# Altium footprint library 1N4148W.PcbLib: 1 footprints
Each footprint in its own frame and in the unit in brackets; x right, y up, seen from the top. Pads: shape width x height; smd on the part's side, far side on the other; paste and mask are expansions set on the pad; w line width, h text height; cw(c..) or ccw(c..) is an arc to the next point about the centre after c.
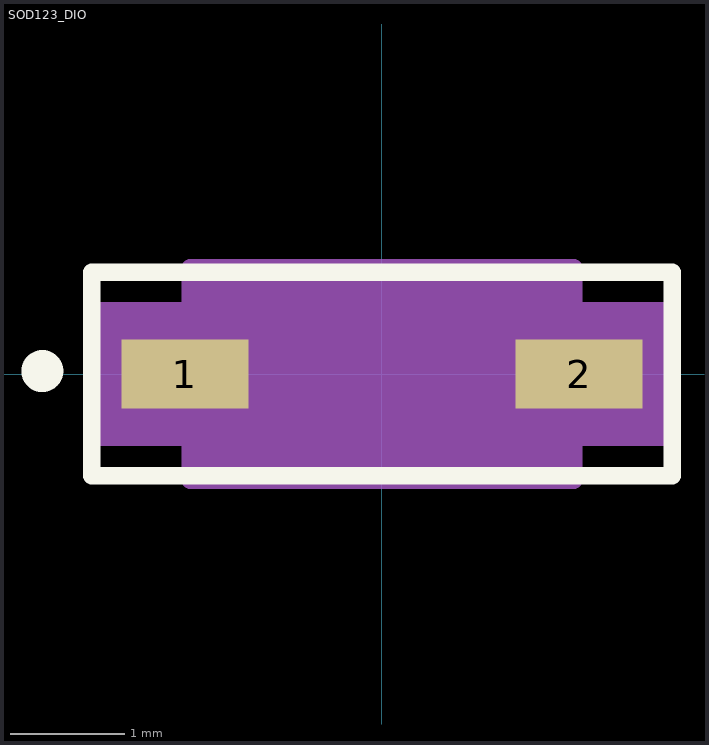
[diagram p0: the footprint, top view; thin cyan lines are the x and y axes]

## SOD123_DIO [mm]
pads (2):
  rect 1.111x0.601 smd paste+0 mask+0: 1(-1.725,0) 2(1.725,0)
Top Overlay:
  circle w0.254: c-2.972,0.025 r0.057
  lines w0.152: -2.54,-0.889 -2.54,0.889 2.54,0.889 2.54,-0.889 -2.54,-0.889
Mechanical 13:
  lines w0.025: -1.425,-0.337 -1.087,-0.675 ; -1.425,0.337 -1.087,0.675 ; -1.925,-0.275 -1.925,0.275 -1.425,0.275 -1.425,-0.275 -1.925,-0.275 ; -1.425,-0.675 1.425,-0.675 1.425,0.675 -1.425,0.675 -1.425,-0.675 ; 1.425,-0.275 1.425,0.275 1.925,0.275 1.925,-0.275 1.425,-0.275
Mechanical 15:
  region: -1.679,-0.554 -2.535,-0.554 -2.535,0.554 -1.679,0.554 -1.679,0.929 1.679,0.929 1.679,0.554 2.535,0.554 2.535,-0.554 1.679,-0.554 1.679,-0.929 -1.679,-0.929
  lines w0.152: -2.535,-0.554 -2.535,0.554 -1.679,0.554 -1.679,0.929 1.679,0.929 1.679,0.554 2.535,0.554 2.535,-0.554 1.679,-0.554 1.679,-0.929 -1.679,-0.929 -1.679,-0.554 -2.535,-0.554
3D body "1N4148W-SOD123_DIO--3DModel.step": height 0.81, standoff 0, extent -1.93,-0.66 1.92,0.69